# Altium schematic symbol library x1-Connector.SCHLIB: 1 symbol
Pins are listed as number, name and electrical type; pins without a type are passive.

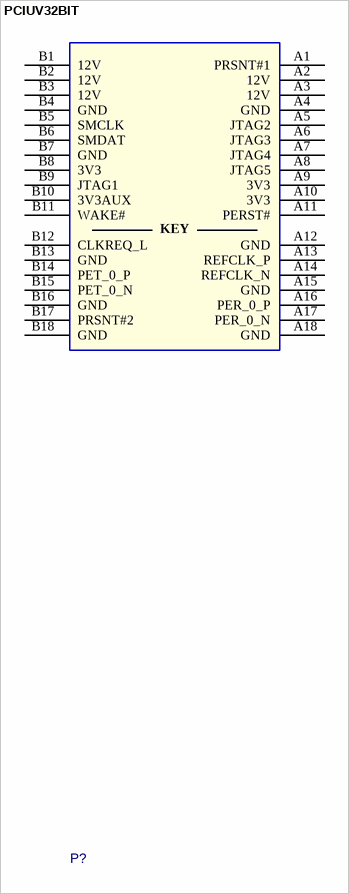
[diagram p0: symbol PCIUV32BIT]

## PCIUV32BIT
designator P?  (value not drawn)  (no BOM)
Card Edge, 98-Position
footprint GF-2D-1000-1K-O98
pins: A1 PRSNT#1, A2 12V, A3 12V, A4 GND, A5 JTAG2, A6 JTAG3, A7 JTAG4, A8 JTAG5, A9 3V3, A10 3V3, A11 PERST#, A12 GND, A13 REFCLK_P, A14 REFCLK_N, A15 GND, A16 PER_0_P, A17 PER_0_N, A18 GND, B1 12V, B2 12V, B3 12V, B4 GND, B5 SMCLK, B6 SMDAT, B7 GND, B8 3V3, B9 JTAG1, B10 3V3AUX, B11 WAKE#, B12 CLKREQ_L, B13 GND, B14 PET_0_P, B15 PET_0_N, B16 GND, B17 PRSNT#2, B18 GND
1 alternate drawing of the same symbol
text: KEY